# EAGLE library part ADXL335 (library Sensor)
Small, Low Power, 3-Axis ±3 g Accelerometer Datasheet <https://www.analog.com/media/en/technical-documentation/data-sheets/ADXL335.pdf>
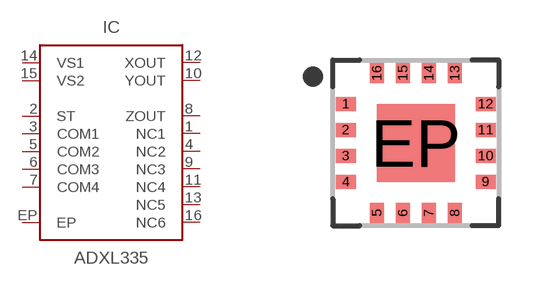
[diagram p12: symbol with the pads of QFN65P400X400X150-17T195_LFCSP_LQ; footprint QFN65P400X400X150-17T195_LFCSP_LQ]

Designator prefix IC

## ADXL335BCPZ (CATEGORY: Sensor; DESCRIPTION: Small, Low Power, 3-Axis ±3 g Accelerometer; MANUFACTURER: Analog Devices; MPN: ADXL335BCPZ; OPERATING_TEMP: −40°C to +85°C; PART_STATUS: Active; ROHS_COMPLIANT: COMPLIANT; SERIES: ADXL335; SUB-CATEGORY: Accelerometer; TYPE: 3-Axis Accelerometer; VALUE: ADXL335), ADXL335BCPZ-RL7 (CATEGORY: Sensor; DESCRIPTION: Small, Low Power, 3-Axis ±3 g Accelerometer; MANUFACTURER: Analog Devices; MPN: ADXL335BCPZ–RL7; OPERATING_TEMP: −40°C to +85°C; PART_STATUS: Active; ROHS_COMPLIANT: COMPLIANT; SERIES: ADXL335; SUB-CATEGORY: Accelerometer; TYPE: 3-Axis Accelerometer; VALUE: ADXL335), ADXL335BCPZ_RL (CATEGORY: Sensor; DESCRIPTION: Small, Low Power, 3-Axis ±3 g Accelerometer; MANUFACTURER: Analog Devices; MPN: ADXL335BCPZ–RL; OPERATING_TEMP: −40°C to +85°C; PART_STATUS: Active; ROHS_COMPLIANT: COMPLIANT; SERIES: ADXL335; SUB-CATEGORY: Accelerometer; TYPE: 3-Axis Accelerometer; VALUE: ADXL335)  [QFN65P400X400X150-17T195_LFCSP_LQ]
1  NC1  nc
2  ST  pas
3  COM1  pwr
4  NC2  nc
5  COM2  pwr
6  COM3  pwr
7  COM4  pwr
8  ZOUT  out
9  NC3  nc
10  YOUT  out
11  NC4  nc
12  XOUT  out
13  NC5  nc
14  VS1  pwr
15  VS2  pwr
16  NC6  nc
EP  EP  nc

## Footprint QFN65P400X400X150-17T195_LFCSP_LQ (pad centres in mm)
16-QFN, 0.65 mm pitch, 4.00 X 4.00 X 1.50 mm body, 1.95 X 1.95 mm thermal pad 16-pin QFN package with 0.65 mm pitch with body size 4.00 X 4.00 X 1.50 mm and thermal pad size 1.95 X 1.95 mm For better soldering results, refer datasheet for D shaped pad details from recommended landpattern.
smd 0.5 x 0.35: 1 -1.75,0.975; 2 -1.75,0.325; 3 -1.75,-0.325; 4 -1.75,-0.975; 9 1.75,-0.975; 10 1.75,-0.325; 11 1.75,0.325; 12 1.75,0.975
smd 0.35 x 0.5: 5 -0.975,-1.75; 6 -0.325,-1.75; 7 0.325,-1.75; 8 0.975,-1.75; 13 0.975,1.75; 14 0.325,1.75; 15 -0.325,1.75; 16 -0.975,1.75
smd 1.95 x 1.95: EP 0,0